# Altium schematic symbol library Schlib1.SchLib: 6 symbols
Pins are listed as number, name and electrical type; pins without a type are passive.

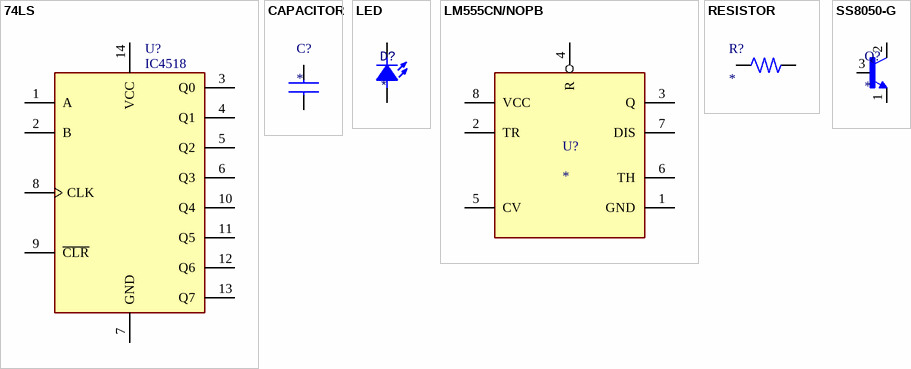
[diagram p0: symbols 74LS to SS8050-G]

## 74LS
designator U?, comment IC4518
CMOS Dual BCD Up-Counter; MF: Texas Instruments; MP: CD4518BE; SnapEDA_Link: https://www.snapeda.com/parts/CD4518BE/Texas+Instruments/view-part/?ref=snap; Package: PDIP-16 Texas Instruments; Value: *; Check_prices: https://www.snapeda.com/parts/CD4518BE/Texas+Instruments/view-part/?ref=eda
footprint DIP794W45P254L1969H508Q14
pins: 1 A, 2 B, 3 Q0, 4 Q1, 5 Q2, 6 Q3, 7 GND, 8 CLK (power), 9 ~{CLR}, 10 Q4, 11 Q5, 12 Q6, 13 Q7, 14 VCC

## CAPACITOR
designator C?
Design Item ID: *; Package: *; Size: *; Value: *; MF: *; MP: *; Supplier: *
footprint CAP_8x11mm
pins: 8, 9

## LED
designator D?
Value: *; Size: *; MF: *; MP: *
footprint LED-TH-2.54mm-RED
pins: 1 A, 2 K

## LM555CN/NOPB
designator U?
Highly Stable 555 Timer; MF: Texas Instruments; MP: LM555CN/NOPB; SnapEDA_Link: https://www.snapeda.com/parts/LM555CN/NOPB/Texas+Instruments/view-part/?ref=snap; Package: PDIP-8 Texas; Value: *; Check_prices: https://www.snapeda.com/parts/LM555CN/NOPB/Texas+Instruments/view-part/?ref=eda
footprint LM555
pins: 1 GND (power), 2 TR, 3 Q, 4 R, 5 CV, 6 TH, 7 DIS, 8 VCC (power)

## RESISTOR
designator R?
Design Item ID: *; Package: *; Size: *; Value: *; MF: *; MP: *; Supplier: *
footprint RES0805_SMD
pins: 1, 2

## SS8050-G
designator Q?
Bipolar (BJT) Transistor NPN 25 V 1.5 A 100MHz 300 mW Surface Mount SOT-23-3; MP: SS8050G; MF: Comchip; Digi-Key_Part_Number: 641-1790-2-ND; Check_prices: https://www.snapeda.com/parts/SS8050G/Comchip/view-part/?ref=eda; Package: None; SnapEDA_Link: https://www.snapeda.com/parts/SS8050G/Comchip/view-part/?ref=snap; Value: *
footprint TO-92
pins: 1 B, 2 E, 3 C